# Altium footprint library ZenerDiodes.PcbLib: 2 footprints
Each footprint in its own frame and in the unit in brackets; x right, y up, seen from the top. Pads: shape width x height; smd on the part's side, far side on the other; paste and mask are expansions set on the pad; w line width, h text height; cw(c..) or ccw(c..) is an arc to the next point about the centre after c.
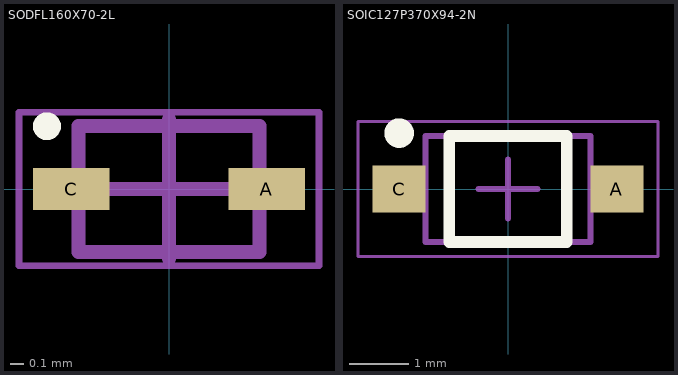
[diagram p0: the footprints below, top view; thin cyan lines are the x and y axes]

## SODFL160X70-2L [mm] "SODFL, 2-Leads, Body 0.80x1.60mm, IPC High Density"
height 0.7
pads (2):
  rect 0.55x0.3 smd: A(0.7,0) C(-0.7,0)
Top Overlay:
  circle w0.1: c-0.875,0.45 r0.05
Assembly Top:
  lines w0.1: -0.65,-0.45 -0.65,0.45 0.65,0.45 0.65,-0.45 -0.65,-0.45
Courtyard Top:
  lines w0.05: -1.075,-0.55 -1.075,0.55 1.075,0.55 1.075,-0.55 -1.075,-0.55
  lines w0.1: -0.5,0 0.5,0 ; 0,-0.5 0,0.5
3D body "SODFL160X70-2L.step": height 0.7, standoff 0, extent -0.8,-0.45 0.8,0.45

## SOIC127P370X94-2N [mm] "SOIC, 2-Leads, Body 1.60x2.69mm, Pitch 1.27mm, IPC Medium Density"
height 0.94
pads (2):
  rect 0.9x0.8 smd: A(1.85,0) C(-1.85,0)
Top Overlay:
  circle w0.25: c-1.85,0.95 r0.125
  lines w0.2: -1,-0.9 -1,0.9 1,0.9 1,-0.9 -1,-0.9
Mechanical 13:
  lines w0.1: -1.4,-0.9 -1.4,0.9 1.4,0.9 1.4,-0.9 -1.4,-0.9
Mechanical 15:
  lines w0.05: -2.55,-1.15 -2.55,1.15 2.55,1.15 2.55,-1.15 -2.55,-1.15
  lines w0.1: -0.5,0 0.5,0 ; 0,-0.5 0,0.5
3D body: height 0.51, standoff 0.25, extent -1.4,-0.9 1.4,0.9